# Altium integrated library Vishay Cera-Mite Ceramic Axial-Lead Capacitor.IntLib: 57 symbols
Pins are listed as number, name and electrical type; pins without a type are passive.

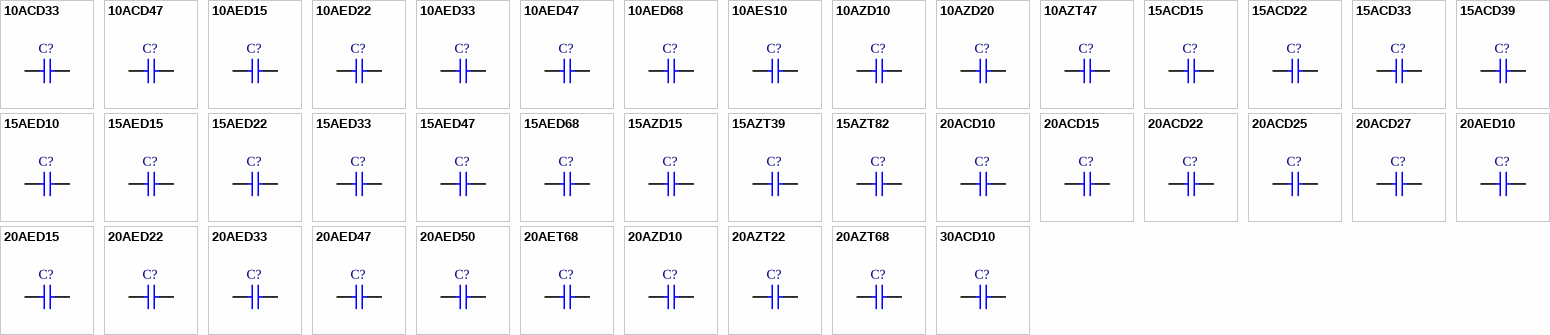
[diagram p0: symbols 10ACD33 to 30ACD10]

## 10ACD33
designator C?
High Voltage Axial Lead Capacitor: 10KV 3300pF +/-20% X7R; Value: 3.3nF; Published: 17-Dec-2003; DatasheetDocument: 29-Apr-2002; PackageReference: CAPA19.8-15X30; Publisher: Altium Limited; ComponentLink1Description: Manufacturer Link; ComponentLink1URL: http://www.vishay.com/; ComponentLink2Description: Datasheet; ComponentLink2URL: http://www.vishay.com/docs/22209/acaeaz.pdf
footprint CAPA19.8-15X30 (Capacitor, Ceramic, Thru-Hole, Axial Leads; Body 15 x 30 mm (LxDia. max) Pin Spacing 19.8 mm (typ))
simulation model CAP (Capacitor)
signal-integrity model Cap
pins: 1, 2

## 10ACD47
designator C?
High Voltage Axial Lead Capacitor: 10KV 4700pF +/-20% X7R; Value: 4.7nF; Published: 17-Dec-2003; DatasheetDocument: 29-Apr-2002; PackageReference: CAPA19.8-15X37; Publisher: Altium Limited; ComponentLink1Description: Manufacturer Link; ComponentLink1URL: http://www.vishay.com/; ComponentLink2Description: Datasheet; ComponentLink2URL: http://www.vishay.com/docs/22209/acaeaz.pdf
footprint CAPA19.8-15X37 (Capacitor, Ceramic, Thru-Hole, Axial Leads; Body 15 x 37 mm (LxDia. max) Pin Spacing 19.8 mm (typ))
simulation model CAP (Capacitor)
signal-integrity model Cap
pins: 1, 2

## 10AED15
designator C?
High Voltage Axial Lead Capacitor: 10KV 1500pF -20+80% Z5U; Value: 1.5nF; Published: 17-Dec-2003; DatasheetDocument: 29-Apr-2002; PackageReference: CAPA17.8-13X21; Publisher: Altium Limited; ComponentLink1Description: Manufacturer Link; ComponentLink1URL: http://www.vishay.com/; ComponentLink2Description: Datasheet; ComponentLink2URL: http://www.vishay.com/docs/22209/acaeaz.pdf
footprint CAPA17.8-13X21 (Capacitor, Ceramic, Thru-Hole, Axial Leads; Body 13 x 21 mm (LxDia. max) Pin Spacing 17.8 mm (typ))
simulation model CAP (Capacitor)
signal-integrity model Cap
pins: 1, 2

## 10AED22
designator C?
High Voltage Axial Lead Capacitor: 10KV 2200pF -20+80% Z5U; Value: 2.2nF; Published: 17-Dec-2003; DatasheetDocument: 29-Apr-2002; PackageReference: CAPA17.8-13X21; Publisher: Altium Limited; ComponentLink1Description: Manufacturer Link; ComponentLink1URL: http://www.vishay.com/; ComponentLink2Description: Datasheet; ComponentLink2URL: http://www.vishay.com/docs/22209/acaeaz.pdf
footprint CAPA17.8-13X21 (Capacitor, Ceramic, Thru-Hole, Axial Leads; Body 13 x 21 mm (LxDia. max) Pin Spacing 17.8 mm (typ))
simulation model CAP (Capacitor)
signal-integrity model Cap
pins: 1, 2

## 10AED33
designator C?
High Voltage Axial Lead Capacitor: 10KV 3300pF -20+80% Z5U; Value: 3.3nF; Published: 17-Dec-2003; DatasheetDocument: 29-Apr-2002; PackageReference: CAPA17.8-13X30; Publisher: Altium Limited; ComponentLink1Description: Manufacturer Link; ComponentLink1URL: http://www.vishay.com/; ComponentLink2Description: Datasheet; ComponentLink2URL: http://www.vishay.com/docs/22209/acaeaz.pdf
footprint CAPA17.8-13X30 (Capacitor, Ceramic, Thru-Hole, Axial Leads; Body 13 x 30 mm (LxDia. max) Pin Spacing 17.8 mm (typ))
simulation model CAP (Capacitor)
signal-integrity model Cap
pins: 1, 2

## 10AED47
designator C?
High Voltage Axial Lead Capacitor: 10KV 4700pF -20+80% Z5U; Value: 4.7nF; Published: 17-Dec-2003; DatasheetDocument: 29-Apr-2002; PackageReference: CAPA17.8-13X30; Publisher: Altium Limited; ComponentLink1Description: Manufacturer Link; ComponentLink1URL: http://www.vishay.com/; ComponentLink2Description: Datasheet; ComponentLink2URL: http://www.vishay.com/docs/22209/acaeaz.pdf
footprint CAPA17.8-13X30 (Capacitor, Ceramic, Thru-Hole, Axial Leads; Body 13 x 30 mm (LxDia. max) Pin Spacing 17.8 mm (typ))
simulation model CAP (Capacitor)
signal-integrity model Cap
pins: 1, 2

## 10AED68
designator C?
High Voltage Axial Lead Capacitor: 10KV 6800pF -20+80% Z5U; Value: 6.8nF; Published: 17-Dec-2003; DatasheetDocument: 29-Apr-2002; PackageReference: CAPA17.8-13X30; Publisher: Altium Limited; ComponentLink1Description: Manufacturer Link; ComponentLink1URL: http://www.vishay.com/; ComponentLink2Description: Datasheet; ComponentLink2URL: http://www.vishay.com/docs/22209/acaeaz.pdf
footprint CAPA17.8-13X30 (Capacitor, Ceramic, Thru-Hole, Axial Leads; Body 13 x 30 mm (LxDia. max) Pin Spacing 17.8 mm (typ))
simulation model CAP (Capacitor)
signal-integrity model Cap
pins: 1, 2

## 10AES10
designator C?
High Voltage Axial Lead Capacitor: 10KV 10000pF -20+80% Z5U; Value: 10nF; Published: 17-Dec-2003; DatasheetDocument: 29-Apr-2002; PackageReference: CAPA17.8-13X37; Publisher: Altium Limited; ComponentLink1Description: Manufacturer Link; ComponentLink1URL: http://www.vishay.com/; ComponentLink2Description: Datasheet; ComponentLink2URL: http://www.vishay.com/docs/22209/acaeaz.pdf
footprint CAPA17.8-13X37 (Capacitor, Ceramic, Thru-Hole, Axial Leads; Body 13 x 37 mm (LxDia. max) Pin Spacing 17.8 mm (typ))
simulation model CAP (Capacitor)
signal-integrity model Cap
pins: 1, 2

## 10AZD10
designator C?
High Voltage Axial Lead Capacitor: 10KV 1000pF +/-20% N4700; Value: 1nF; Published: 17-Dec-2003; DatasheetDocument: 29-Apr-2002; PackageReference: CAPA17.8-13X30; Publisher: Altium Limited; ComponentLink1Description: Manufacturer Link; ComponentLink1URL: http://www.vishay.com/; ComponentLink2Description: Datasheet; ComponentLink2URL: http://www.vishay.com/docs/22209/acaeaz.pdf
footprint CAPA17.8-13X30 (Capacitor, Ceramic, Thru-Hole, Axial Leads; Body 13 x 30 mm (LxDia. max) Pin Spacing 17.8 mm (typ))
simulation model CAP (Capacitor)
signal-integrity model Cap
pins: 1, 2

## 10AZD20
designator C?
High Voltage Axial Lead Capacitor: 10KV 2000pF +/-20% N4700; Value: 2nF; Published: 17-Dec-2003; DatasheetDocument: 29-Apr-2002; PackageReference: CAPA17.8-13X37; Publisher: Altium Limited; ComponentLink1Description: Manufacturer Link; ComponentLink1URL: http://www.vishay.com/; ComponentLink2Description: Datasheet; ComponentLink2URL: http://www.vishay.com/docs/22209/acaeaz.pdf
footprint CAPA17.8-13X37 (Capacitor, Ceramic, Thru-Hole, Axial Leads; Body 13 x 37 mm (LxDia. max) Pin Spacing 17.8 mm (typ))
simulation model CAP (Capacitor)
signal-integrity model Cap
pins: 1, 2

## 10AZT47
designator C?
High Voltage Axial Lead Capacitor: 10KV 470pF +/-20% N4700; Published: 17-Dec-2003; DatasheetDocument: 29-Apr-2002; PackageReference: CAPA17.8-13X21; Publisher: Altium Limited; ComponentLink1Description: Manufacturer Link; ComponentLink1URL: http://www.vishay.com/; ComponentLink2Description: Datasheet; ComponentLink2URL: http://www.vishay.com/docs/22209/acaeaz.pdf; Value: 470pF
footprint CAPA17.8-13X21 (Capacitor, Ceramic, Thru-Hole, Axial Leads; Body 13 x 21 mm (LxDia. max) Pin Spacing 17.8 mm (typ))
simulation model CAP (Capacitor)
signal-integrity model Cap
pins: 1, 2

## 15ACD15
designator C?
High Voltage Axial Lead Capacitor: 15KV 1500pF +/-20% X7R; Value: 1.5nF; Published: 17-Dec-2003; DatasheetDocument: 29-Apr-2002; PackageReference: CAPA19.8-15X30; Publisher: Altium Limited; ComponentLink1Description: Manufacturer Link; ComponentLink1URL: http://www.vishay.com/; ComponentLink2Description: Datasheet; ComponentLink2URL: http://www.vishay.com/docs/22209/acaeaz.pdf
footprint CAPA19.8-15X30 (Capacitor, Ceramic, Thru-Hole, Axial Leads; Body 15 x 30 mm (LxDia. max) Pin Spacing 19.8 mm (typ))
simulation model CAP (Capacitor)
signal-integrity model Cap
pins: 1, 2

## 15ACD22
designator C?
High Voltage Axial Lead Capacitor: 15KV 2200pF +/-20% X7R; Value: 2.2nF; Published: 17-Dec-2003; DatasheetDocument: 29-Apr-2002; PackageReference: CAPA17.8-13X30; Publisher: Altium Limited; ComponentLink1Description: Manufacturer Link; ComponentLink1URL: http://www.vishay.com/; ComponentLink2Description: Datasheet; ComponentLink2URL: http://www.vishay.com/docs/22209/acaeaz.pdf
footprint CAPA17.8-13X30 (Capacitor, Ceramic, Thru-Hole, Axial Leads; Body 13 x 30 mm (LxDia. max) Pin Spacing 17.8 mm (typ))
simulation model CAP (Capacitor)
signal-integrity model Cap
pins: 1, 2

## 15ACD33
designator C?
High Voltage Axial Lead Capacitor: 15KV 3300pF +/-20% X7R; Value: 3.3nF; Published: 17-Dec-2003; DatasheetDocument: 29-Apr-2002; PackageReference: CAPA19.8-15X37; Publisher: Altium Limited; ComponentLink1Description: Manufacturer Link; ComponentLink1URL: http://www.vishay.com/; ComponentLink2Description: Datasheet; ComponentLink2URL: http://www.vishay.com/docs/22209/acaeaz.pdf
footprint CAPA19.8-15X37 (Capacitor, Ceramic, Thru-Hole, Axial Leads; Body 15 x 37 mm (LxDia. max) Pin Spacing 19.8 mm (typ))
simulation model CAP (Capacitor)
signal-integrity model Cap
pins: 1, 2

## 15ACD39
designator C?
High Voltage Axial Lead Capacitor: 15KV 3900pF +/-20% X7R; Value: 3.9nF; Published: 17-Dec-2003; DatasheetDocument: 29-Apr-2002; PackageReference: CAPA19.8-15X37; Publisher: Altium Limited; ComponentLink1Description: Manufacturer Link; ComponentLink1URL: http://www.vishay.com/; ComponentLink2Description: Datasheet; ComponentLink2URL: http://www.vishay.com/docs/22209/acaeaz.pdf
footprint CAPA19.8-15X37 (Capacitor, Ceramic, Thru-Hole, Axial Leads; Body 15 x 37 mm (LxDia. max) Pin Spacing 19.8 mm (typ))
simulation model CAP (Capacitor)
signal-integrity model Cap
pins: 1, 2

## 15AED10
designator C?
High Voltage Axial Lead Capacitor: 15KV 1000pF -20+80% Z5U; Value: 1nF; Published: 17-Dec-2003; DatasheetDocument: 29-Apr-2002; PackageReference: CAPA17.8-13X21; Publisher: Altium Limited; ComponentLink1Description: Manufacturer Link; ComponentLink1URL: http://www.vishay.com/; ComponentLink2Description: Datasheet; ComponentLink2URL: http://www.vishay.com/docs/22209/acaeaz.pdf
footprint CAPA17.8-13X21 (Capacitor, Ceramic, Thru-Hole, Axial Leads; Body 13 x 21 mm (LxDia. max) Pin Spacing 17.8 mm (typ))
simulation model CAP (Capacitor)
signal-integrity model Cap
pins: 1, 2

## 15AED15
designator C?
High Voltage Axial Lead Capacitor: 15KV 1500pF -20+80% Z5U; Value: 1.5nF; Published: 17-Dec-2003; DatasheetDocument: 29-Apr-2002; PackageReference: CAPA17.8-13X21; Publisher: Altium Limited; ComponentLink1Description: Manufacturer Link; ComponentLink1URL: http://www.vishay.com/; ComponentLink2Description: Datasheet; ComponentLink2URL: http://www.vishay.com/docs/22209/acaeaz.pdf
footprint CAPA17.8-13X21 (Capacitor, Ceramic, Thru-Hole, Axial Leads; Body 13 x 21 mm (LxDia. max) Pin Spacing 17.8 mm (typ))
simulation model CAP (Capacitor)
signal-integrity model Cap
pins: 1, 2

## 15AED22
designator C?
High Voltage Axial Lead Capacitor: 15KV 2200pF -20+80% Z5U; Value: 2.2nF; Published: 17-Dec-2003; DatasheetDocument: 29-Apr-2002; PackageReference: CAPA17.8-13X30; Publisher: Altium Limited; ComponentLink1Description: Manufacturer Link; ComponentLink1URL: http://www.vishay.com/; ComponentLink2Description: Datasheet; ComponentLink2URL: http://www.vishay.com/docs/22209/acaeaz.pdf
footprint CAPA17.8-13X30 (Capacitor, Ceramic, Thru-Hole, Axial Leads; Body 13 x 30 mm (LxDia. max) Pin Spacing 17.8 mm (typ))
simulation model CAP (Capacitor)
signal-integrity model Cap
pins: 1, 2

## 15AED33
designator C?
High Voltage Axial Lead Capacitor: 15KV 3300pF -20+80% Z5U; Value: 3.3nF; Published: 17-Dec-2003; DatasheetDocument: 29-Apr-2002; PackageReference: CAPA17.8-13X30; Publisher: Altium Limited; ComponentLink1Description: Manufacturer Link; ComponentLink1URL: http://www.vishay.com/; ComponentLink2Description: Datasheet; ComponentLink2URL: http://www.vishay.com/docs/22209/acaeaz.pdf
footprint CAPA17.8-13X30 (Capacitor, Ceramic, Thru-Hole, Axial Leads; Body 13 x 30 mm (LxDia. max) Pin Spacing 17.8 mm (typ))
simulation model CAP (Capacitor)
signal-integrity model Cap
pins: 1, 2

## 15AED47
designator C?
High Voltage Axial Lead Capacitor: 15KV 4700pF -20+80% Z5U; Value: 4.7nF; Published: 17-Dec-2003; DatasheetDocument: 29-Apr-2002; PackageReference: CAPA17.8-13X30; Publisher: Altium Limited; ComponentLink1Description: Manufacturer Link; ComponentLink1URL: http://www.vishay.com/; ComponentLink2Description: Datasheet; ComponentLink2URL: http://www.vishay.com/docs/22209/acaeaz.pdf
footprint CAPA17.8-13X30 (Capacitor, Ceramic, Thru-Hole, Axial Leads; Body 13 x 30 mm (LxDia. max) Pin Spacing 17.8 mm (typ))
simulation model CAP (Capacitor)
signal-integrity model Cap
pins: 1, 2

## 15AED68
designator C?
High Voltage Axial Lead Capacitor: 15KV 6800pF -20+80% Z5U; Value: 6.8nF; Published: 17-Dec-2003; DatasheetDocument: 29-Apr-2002; PackageReference: CAPA17.8-13X37; Publisher: Altium Limited; ComponentLink1Description: Manufacturer Link; ComponentLink1URL: http://www.vishay.com/; ComponentLink2Description: Datasheet; ComponentLink2URL: http://www.vishay.com/docs/22209/acaeaz.pdf
footprint CAPA17.8-13X37 (Capacitor, Ceramic, Thru-Hole, Axial Leads; Body 13 x 37 mm (LxDia. max) Pin Spacing 17.8 mm (typ))
simulation model CAP (Capacitor)
signal-integrity model Cap
pins: 1, 2

## 15AZD15
designator C?
High Voltage Axial Lead Capacitor: 15KV 1500pF +/-20% N4700; Value: 1.5nF; Published: 17-Dec-2003; DatasheetDocument: 29-Apr-2002; PackageReference: CAPA17.8-13X37; Publisher: Altium Limited; ComponentLink1Description: Manufacturer Link; ComponentLink1URL: http://www.vishay.com/; ComponentLink2Description: Datasheet; ComponentLink2URL: http://www.vishay.com/docs/22209/acaeaz.pdf
footprint CAPA17.8-13X37 (Capacitor, Ceramic, Thru-Hole, Axial Leads; Body 13 x 37 mm (LxDia. max) Pin Spacing 17.8 mm (typ))
simulation model CAP (Capacitor)
signal-integrity model Cap
pins: 1, 2

## 15AZT39
designator C?
High Voltage Axial Lead Capacitor: 15KV 390pF +/-20% N4700; Published: 17-Dec-2003; DatasheetDocument: 29-Apr-2002; PackageReference: CAPA17.8-13X21; Publisher: Altium Limited; ComponentLink1Description: Manufacturer Link; ComponentLink1URL: http://www.vishay.com/; ComponentLink2Description: Datasheet; ComponentLink2URL: http://www.vishay.com/docs/22209/acaeaz.pdf; Value: 390pF
footprint CAPA17.8-13X21 (Capacitor, Ceramic, Thru-Hole, Axial Leads; Body 13 x 21 mm (LxDia. max) Pin Spacing 17.8 mm (typ))
simulation model CAP (Capacitor)
signal-integrity model Cap
pins: 1, 2

## 15AZT82
designator C?
High Voltage Axial Lead Capacitor: 15KV 820pF +/-20% N4700; Published: 17-Dec-2003; DatasheetDocument: 29-Apr-2002; PackageReference: CAPA17.8-13X30; Publisher: Altium Limited; ComponentLink1Description: Manufacturer Link; ComponentLink1URL: http://www.vishay.com/; ComponentLink2Description: Datasheet; ComponentLink2URL: http://www.vishay.com/docs/22209/acaeaz.pdf; Value: 820pF
footprint CAPA17.8-13X30 (Capacitor, Ceramic, Thru-Hole, Axial Leads; Body 13 x 30 mm (LxDia. max) Pin Spacing 17.8 mm (typ))
simulation model CAP (Capacitor)
signal-integrity model Cap
pins: 1, 2

## 20ACD10
designator C?
High Voltage Axial Lead Capacitor: 20KV 1000pF +/-20% X7R; Value: 1nF; Published: 17-Dec-2003; DatasheetDocument: 29-Apr-2002; PackageReference: CAPA24.8-20X30; Publisher: Altium Limited; ComponentLink1Description: Manufacturer Link; ComponentLink1URL: http://www.vishay.com/; ComponentLink2Description: Datasheet; ComponentLink2URL: http://www.vishay.com/docs/22209/acaeaz.pdf
footprint CAPA24.8-20X30 (Capacitor, Ceramic, Thru-Hole, Axial Leads; Body 20 x 30 mm (LxDia. max) Pin Spacing 24.8 mm (typ))
simulation model CAP (Capacitor)
signal-integrity model Cap
pins: 1, 2

## 20ACD15
designator C?
High Voltage Axial Lead Capacitor: 20KV 1500pF +/-20% X7R; Value: 1.5nF; Published: 17-Dec-2003; DatasheetDocument: 29-Apr-2002; PackageReference: CAPA24.8-20X30; Publisher: Altium Limited; ComponentLink1Description: Manufacturer Link; ComponentLink1URL: http://www.vishay.com/; ComponentLink2Description: Datasheet; ComponentLink2URL: http://www.vishay.com/docs/22209/acaeaz.pdf
footprint CAPA24.8-20X30 (Capacitor, Ceramic, Thru-Hole, Axial Leads; Body 20 x 30 mm (LxDia. max) Pin Spacing 24.8 mm (typ))
simulation model CAP (Capacitor)
signal-integrity model Cap
pins: 1, 2

## 20ACD22
designator C?
High Voltage Axial Lead Capacitor: 20KV 2200pF +/-20% X7R; Value: 2.2nF; Published: 17-Dec-2003; DatasheetDocument: 29-Apr-2002; PackageReference: CAPA24.8-20X37; Publisher: Altium Limited; ComponentLink1Description: Manufacturer Link; ComponentLink1URL: http://www.vishay.com/; ComponentLink2Description: Datasheet; ComponentLink2URL: http://www.vishay.com/docs/22209/acaeaz.pdf
footprint CAPA24.8-20X37 (Capacitor, Ceramic, Thru-Hole, Axial Leads; Body 20 x 37 mm (LxDia. max) Pin Spacing 24.8 mm (typ))
simulation model CAP (Capacitor)
signal-integrity model Cap
pins: 1, 2

## 20ACD25
designator C?
High Voltage Axial Lead Capacitor: 20KV 2500pF +/-20% X7R; Value: 2.5nF; Published: 17-Dec-2003; DatasheetDocument: 29-Apr-2002; PackageReference: CAPA24.8-20X37; Publisher: Altium Limited; ComponentLink1Description: Manufacturer Link; ComponentLink1URL: http://www.vishay.com/; ComponentLink2Description: Datasheet; ComponentLink2URL: http://www.vishay.com/docs/22209/acaeaz.pdf
footprint CAPA24.8-20X37 (Capacitor, Ceramic, Thru-Hole, Axial Leads; Body 20 x 37 mm (LxDia. max) Pin Spacing 24.8 mm (typ))
simulation model CAP (Capacitor)
signal-integrity model Cap
pins: 1, 2

## 20ACD27
designator C?
High Voltage Axial Lead Capacitor: 20KV 2700pF +/-20% X7R; Value: 2.7nF; Published: 17-Dec-2003; DatasheetDocument: 29-Apr-2002; PackageReference: CAPA24.8-20X37; Publisher: Altium Limited; ComponentLink1Description: Manufacturer Link; ComponentLink1URL: http://www.vishay.com/; ComponentLink2Description: Datasheet; ComponentLink2URL: http://www.vishay.com/docs/22209/acaeaz.pdf
footprint CAPA24.8-20X37 (Capacitor, Ceramic, Thru-Hole, Axial Leads; Body 20 x 37 mm (LxDia. max) Pin Spacing 24.8 mm (typ))
simulation model CAP (Capacitor)
signal-integrity model Cap
pins: 1, 2

## 20AED10
designator C?
High Voltage Axial Lead Capacitor: 20KV 1000pF -20+80% Z5U; Value: 1nF; Published: 17-Dec-2003; DatasheetDocument: 29-Apr-2002; PackageReference: CAPA19.8-15X21; Publisher: Altium Limited; ComponentLink1Description: Manufacturer Link; ComponentLink1URL: http://www.vishay.com/; ComponentLink2Description: Datasheet; ComponentLink2URL: http://www.vishay.com/docs/22209/acaeaz.pdf
footprint CAPA19.8-15X21 (Capacitor, Ceramic, Thru-Hole, Axial Leads; Body 15 x 21 mm (LxDia. max) Pin Spacing 19.8 mm (typ))
simulation model CAP (Capacitor)
signal-integrity model Cap
pins: 1, 2

## 20AED15
designator C?
High Voltage Axial Lead Capacitor: 20KV 1500pF -20+80% Z5U; Value: 1.5nF; Published: 17-Dec-2003; DatasheetDocument: 29-Apr-2002; PackageReference: CAPA19.8-15X21; Publisher: Altium Limited; ComponentLink1Description: Manufacturer Link; ComponentLink1URL: http://www.vishay.com/; ComponentLink2Description: Datasheet; ComponentLink2URL: http://www.vishay.com/docs/22209/acaeaz.pdf
footprint CAPA19.8-15X21 (Capacitor, Ceramic, Thru-Hole, Axial Leads; Body 15 x 21 mm (LxDia. max) Pin Spacing 19.8 mm (typ))
simulation model CAP (Capacitor)
signal-integrity model Cap
pins: 1, 2

## 20AED22
designator C?
High Voltage Axial Lead Capacitor: 20KV 2200pF -20+80% Z5U; Value: 2.2nF; Published: 17-Dec-2003; DatasheetDocument: 29-Apr-2002; PackageReference: CAPA19.8-15X30; Publisher: Altium Limited; ComponentLink1Description: Manufacturer Link; ComponentLink1URL: http://www.vishay.com/; ComponentLink2Description: Datasheet; ComponentLink2URL: http://www.vishay.com/docs/22209/acaeaz.pdf
footprint CAPA19.8-15X30 (Capacitor, Ceramic, Thru-Hole, Axial Leads; Body 15 x 30 mm (LxDia. max) Pin Spacing 19.8 mm (typ))
simulation model CAP (Capacitor)
signal-integrity model Cap
pins: 1, 2

## 20AED33
designator C?
High Voltage Axial Lead Capacitor: 20KV 3300pF -20+80% Z5U; Value: 3.3nF; Published: 17-Dec-2003; DatasheetDocument: 29-Apr-2002; PackageReference: CAPA19.8-15X30; Publisher: Altium Limited; ComponentLink1Description: Manufacturer Link; ComponentLink1URL: http://www.vishay.com/; ComponentLink2Description: Datasheet; ComponentLink2URL: http://www.vishay.com/docs/22209/acaeaz.pdf
footprint CAPA19.8-15X30 (Capacitor, Ceramic, Thru-Hole, Axial Leads; Body 15 x 30 mm (LxDia. max) Pin Spacing 19.8 mm (typ))
simulation model CAP (Capacitor)
signal-integrity model Cap
pins: 1, 2

## 20AED47
designator C?
High Voltage Axial Lead Capacitor: 20KV 4700pF -20+80% Z5U; Value: 4.7nF; Published: 17-Dec-2003; DatasheetDocument: 29-Apr-2002; PackageReference: CAPA19.8-15X37; Publisher: Altium Limited; ComponentLink1Description: Manufacturer Link; ComponentLink1URL: http://www.vishay.com/; ComponentLink2Description: Datasheet; ComponentLink2URL: http://www.vishay.com/docs/22209/acaeaz.pdf
footprint CAPA19.8-15X37 (Capacitor, Ceramic, Thru-Hole, Axial Leads; Body 15 x 37 mm (LxDia. max) Pin Spacing 19.8 mm (typ))
simulation model CAP (Capacitor)
signal-integrity model Cap
pins: 1, 2

## 20AED50
designator C?
High Voltage Axial Lead Capacitor: 20KV 5000pF -20+80% Z5U; Value: 5nF; Published: 17-Dec-2003; DatasheetDocument: 29-Apr-2002; PackageReference: CAPA19.8-15X37; Publisher: Altium Limited; ComponentLink1Description: Manufacturer Link; ComponentLink1URL: http://www.vishay.com/; ComponentLink2Description: Datasheet; ComponentLink2URL: http://www.vishay.com/docs/22209/acaeaz.pdf
footprint CAPA19.8-15X37 (Capacitor, Ceramic, Thru-Hole, Axial Leads; Body 15 x 37 mm (LxDia. max) Pin Spacing 19.8 mm (typ))
simulation model CAP (Capacitor)
signal-integrity model Cap
pins: 1, 2

## 20AET68
designator C?
High Voltage Axial Lead Capacitor: 20KV 680pF -20+80% Z5U; Published: 17-Dec-2003; DatasheetDocument: 29-Apr-2002; PackageReference: CAPA19.8-15X21; Publisher: Altium Limited; ComponentLink1Description: Manufacturer Link; ComponentLink1URL: http://www.vishay.com/; ComponentLink2Description: Datasheet; ComponentLink2URL: http://www.vishay.com/docs/22209/acaeaz.pdf; Value: 680pF
footprint CAPA19.8-15X21 (Capacitor, Ceramic, Thru-Hole, Axial Leads; Body 15 x 21 mm (LxDia. max) Pin Spacing 19.8 mm (typ))
simulation model CAP (Capacitor)
signal-integrity model Cap
pins: 1, 2

## 20AZD10
designator C?
High Voltage Axial Lead Capacitor: 20KV 1000pF +/-20% N4700; Value: 1nF; Published: 17-Dec-2003; DatasheetDocument: 29-Apr-2002; PackageReference: CAPA19.8-15X37; Publisher: Altium Limited; ComponentLink1Description: Manufacturer Link; ComponentLink1URL: http://www.vishay.com/; ComponentLink2Description: Datasheet; ComponentLink2URL: http://www.vishay.com/docs/22209/acaeaz.pdf
footprint CAPA19.8-15X37 (Capacitor, Ceramic, Thru-Hole, Axial Leads; Body 15 x 37 mm (LxDia. max) Pin Spacing 19.8 mm (typ))
simulation model CAP (Capacitor)
signal-integrity model Cap
pins: 1, 2

## 20AZT22
designator C?
High Voltage Axial Lead Capacitor: 20KV 220pF +/-20% N4700; Published: 17-Dec-2003; DatasheetDocument: 29-Apr-2002; PackageReference: CAPA19.8-15X21; Publisher: Altium Limited; ComponentLink1Description: Manufacturer Link; ComponentLink1URL: http://www.vishay.com/; ComponentLink2Description: Datasheet; ComponentLink2URL: http://www.vishay.com/docs/22209/acaeaz.pdf; Value: 220pF
footprint CAPA19.8-15X21 (Capacitor, Ceramic, Thru-Hole, Axial Leads; Body 15 x 21 mm (LxDia. max) Pin Spacing 19.8 mm (typ))
simulation model CAP (Capacitor)
signal-integrity model Cap
pins: 1, 2

## 20AZT68
designator C?
High Voltage Axial Lead Capacitor: 20KV 680pF +/-20% N4700; Published: 17-Dec-2003; DatasheetDocument: 29-Apr-2002; PackageReference: CAPA19.8-15X30; Publisher: Altium Limited; ComponentLink1Description: Manufacturer Link; ComponentLink1URL: http://www.vishay.com/; ComponentLink2Description: Datasheet; ComponentLink2URL: http://www.vishay.com/docs/22209/acaeaz.pdf; Value: 680pF
footprint CAPA19.8-15X30 (Capacitor, Ceramic, Thru-Hole, Axial Leads; Body 15 x 30 mm (LxDia. max) Pin Spacing 19.8 mm (typ))
simulation model CAP (Capacitor)
signal-integrity model Cap
pins: 1, 2

## 30ACD10
designator C?
High Voltage Axial Lead Capacitor: 30KV 1000pF +/-20% X7R; Value: 1nF; Published: 17-Dec-2003; DatasheetDocument: 29-Apr-2002; PackageReference: CAPA28.8-24X30; Publisher: Altium Limited; ComponentLink1Description: Manufacturer Link; ComponentLink1URL: http://www.vishay.com/; ComponentLink2Description: Datasheet; ComponentLink2URL: http://www.vishay.com/docs/22209/acaeaz.pdf
footprint CAPA28.8-24X30 (Capacitor, Ceramic, Thru-Hole, Axial Leads; Body 24 x 30 mm (LxDia. max) Pin Spacing 28.8 mm (typ))
simulation model CAP (Capacitor)
signal-integrity model Cap
pins: 1, 2

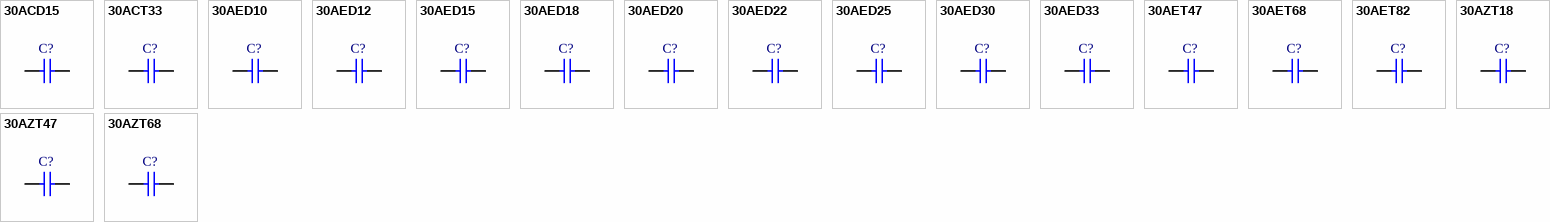
[diagram p1: symbols 30ACD15 to 30AZT68]

## 30ACD15
designator C?
High Voltage Axial Lead Capacitor: 30KV 1500pF +/-20% X7R; Value: 1.5nF; Published: 17-Dec-2003; DatasheetDocument: 29-Apr-2002; PackageReference: CAPA28.8-24X37; Publisher: Altium Limited; ComponentLink1Description: Manufacturer Link; ComponentLink1URL: http://www.vishay.com/; ComponentLink2Description: Datasheet; ComponentLink2URL: http://www.vishay.com/docs/22209/acaeaz.pdf
footprint CAPA28.8-24X37 (Capacitor, Ceramic, Thru-Hole, Axial Leads; Body 24 x 37 mm (LxDia. max) Pin Spacing 28.8 mm (typ))
simulation model CAP (Capacitor)
signal-integrity model Cap
pins: 1, 2

## 30ACT33
designator C?
High Voltage Axial Lead Capacitor: 30KV 330pF +/-20% X7R; Published: 17-Dec-2003; DatasheetDocument: 29-Apr-2002; PackageReference: CAPA28.8-24X21; Publisher: Altium Limited; ComponentLink1Description: Manufacturer Link; ComponentLink1URL: http://www.vishay.com/; ComponentLink2Description: Datasheet; ComponentLink2URL: http://www.vishay.com/docs/22209/acaeaz.pdf; Value: 330pF
footprint CAPA28.8-24X21 (Capacitor, Ceramic, Thru-Hole, Axial Leads; Body 24 x 21 mm (LxDia. max) Pin Spacing 28.8 mm (typ))
simulation model CAP (Capacitor)
signal-integrity model Cap
pins: 1, 2

## 30AED10
designator C?
High Voltage Axial Lead Capacitor: 30KV 1000pF -20+80% Z5U; Value: 1nF; Published: 17-Dec-2003; DatasheetDocument: 29-Apr-2002; PackageReference: CAPA24.8-20X30; Publisher: Altium Limited; ComponentLink1Description: Manufacturer Link; ComponentLink1URL: http://www.vishay.com/; ComponentLink2Description: Datasheet; ComponentLink2URL: http://www.vishay.com/docs/22209/acaeaz.pdf
footprint CAPA24.8-20X30 (Capacitor, Ceramic, Thru-Hole, Axial Leads; Body 20 x 30 mm (LxDia. max) Pin Spacing 24.8 mm (typ))
simulation model CAP (Capacitor)
signal-integrity model Cap
pins: 1, 2

## 30AED12
designator C?
High Voltage Axial Lead Capacitor: 30KV 1200pF -20+80% Z5U; Value: 1.2nF; Published: 17-Dec-2003; DatasheetDocument: 29-Apr-2002; PackageReference: CAPA24.8-20X30; Publisher: Altium Limited; ComponentLink1Description: Manufacturer Link; ComponentLink1URL: http://www.vishay.com/; ComponentLink2Description: Datasheet; ComponentLink2URL: http://www.vishay.com/docs/22209/acaeaz.pdf
footprint CAPA24.8-20X30 (Capacitor, Ceramic, Thru-Hole, Axial Leads; Body 20 x 30 mm (LxDia. max) Pin Spacing 24.8 mm (typ))
simulation model CAP (Capacitor)
signal-integrity model Cap
pins: 1, 2

## 30AED15
designator C?
High Voltage Axial Lead Capacitor: 30KV 1500pF -20+80% Z5U; Value: 1.5nF; Published: 17-Dec-2003; DatasheetDocument: 29-Apr-2002; PackageReference: CAPA24.8-20X30; Publisher: Altium Limited; ComponentLink1Description: Manufacturer Link; ComponentLink1URL: http://www.vishay.com/; ComponentLink2Description: Datasheet; ComponentLink2URL: http://www.vishay.com/docs/22209/acaeaz.pdf
footprint CAPA24.8-20X30 (Capacitor, Ceramic, Thru-Hole, Axial Leads; Body 20 x 30 mm (LxDia. max) Pin Spacing 24.8 mm (typ))
simulation model CAP (Capacitor)
signal-integrity model Cap
pins: 1, 2

## 30AED18
designator C?
High Voltage Axial Lead Capacitor: 30KV 1800pF -20+80% Z5U; Value: 1.8nF; Published: 17-Dec-2003; DatasheetDocument: 29-Apr-2002; PackageReference: CAPA24.8-20X37; Publisher: Altium Limited; ComponentLink1Description: Manufacturer Link; ComponentLink1URL: http://www.vishay.com/; ComponentLink2Description: Datasheet; ComponentLink2URL: http://www.vishay.com/docs/22209/acaeaz.pdf
footprint CAPA24.8-20X37 (Capacitor, Ceramic, Thru-Hole, Axial Leads; Body 20 x 37 mm (LxDia. max) Pin Spacing 24.8 mm (typ))
simulation model CAP (Capacitor)
signal-integrity model Cap
pins: 1, 2

## 30AED20
designator C?
High Voltage Axial Lead Capacitor: 30KV 2000pF -20+80% Z5U; Value: 2nF; Published: 17-Dec-2003; DatasheetDocument: 29-Apr-2002; PackageReference: CAPA24.8-20X37; Publisher: Altium Limited; ComponentLink1Description: Manufacturer Link; ComponentLink1URL: http://www.vishay.com/; ComponentLink2Description: Datasheet; ComponentLink2URL: http://www.vishay.com/docs/22209/acaeaz.pdf
footprint CAPA24.8-20X37 (Capacitor, Ceramic, Thru-Hole, Axial Leads; Body 20 x 37 mm (LxDia. max) Pin Spacing 24.8 mm (typ))
simulation model CAP (Capacitor)
signal-integrity model Cap
pins: 1, 2

## 30AED22
designator C?
High Voltage Axial Lead Capacitor: 30KV 2200pF -20+80% Z5U; Value: 2.2nF; Published: 17-Dec-2003; DatasheetDocument: 29-Apr-2002; PackageReference: CAPA24.8-20X37; Publisher: Altium Limited; ComponentLink1Description: Manufacturer Link; ComponentLink1URL: http://www.vishay.com/; ComponentLink2Description: Datasheet; ComponentLink2URL: http://www.vishay.com/docs/22209/acaeaz.pdf
footprint CAPA24.8-20X37 (Capacitor, Ceramic, Thru-Hole, Axial Leads; Body 20 x 37 mm (LxDia. max) Pin Spacing 24.8 mm (typ))
simulation model CAP (Capacitor)
signal-integrity model Cap
pins: 1, 2

## 30AED25
designator C?
High Voltage Axial Lead Capacitor: 30KV 2500pF -20+80% Z5U; Value: 2.5nF; Published: 17-Dec-2003; DatasheetDocument: 29-Apr-2002; PackageReference: CAPA24.8-20X37; Publisher: Altium Limited; ComponentLink1Description: Manufacturer Link; ComponentLink1URL: http://www.vishay.com/; ComponentLink2Description: Datasheet; ComponentLink2URL: http://www.vishay.com/docs/22209/acaeaz.pdf
footprint CAPA24.8-20X37 (Capacitor, Ceramic, Thru-Hole, Axial Leads; Body 20 x 37 mm (LxDia. max) Pin Spacing 24.8 mm (typ))
simulation model CAP (Capacitor)
signal-integrity model Cap
pins: 1, 2

## 30AED30
designator C?
High Voltage Axial Lead Capacitor: 30KV 3000pF -20+80% Z5U; Value: 3nF; Published: 17-Dec-2003; DatasheetDocument: 29-Apr-2002; PackageReference: CAPA24.8-20X37; Publisher: Altium Limited; ComponentLink1Description: Manufacturer Link; ComponentLink1URL: http://www.vishay.com/; ComponentLink2Description: Datasheet; ComponentLink2URL: http://www.vishay.com/docs/22209/acaeaz.pdf
footprint CAPA24.8-20X37 (Capacitor, Ceramic, Thru-Hole, Axial Leads; Body 20 x 37 mm (LxDia. max) Pin Spacing 24.8 mm (typ))
simulation model CAP (Capacitor)
signal-integrity model Cap
pins: 1, 2

## 30AED33
designator C?
High Voltage Axial Lead Capacitor: 30KV 3300pF -20+80% Z5U; Value: 3.3nF; Published: 17-Dec-2003; DatasheetDocument: 29-Apr-2002; PackageReference: CAPA24.8-20X37; Publisher: Altium Limited; ComponentLink1Description: Manufacturer Link; ComponentLink1URL: http://www.vishay.com/; ComponentLink2Description: Datasheet; ComponentLink2URL: http://www.vishay.com/docs/22209/acaeaz.pdf
footprint CAPA24.8-20X37 (Capacitor, Ceramic, Thru-Hole, Axial Leads; Body 20 x 37 mm (LxDia. max) Pin Spacing 24.8 mm (typ))
simulation model CAP (Capacitor)
signal-integrity model Cap
pins: 1, 2

## 30AET47
designator C?
High Voltage Axial Lead Capacitor: 30KV 470pF -20+80% Z5U; Published: 17-Dec-2003; DatasheetDocument: 29-Apr-2002; PackageReference: CAPA24.8-20X21; Publisher: Altium Limited; ComponentLink1Description: Manufacturer Link; ComponentLink1URL: http://www.vishay.com/; ComponentLink2Description: Datasheet; ComponentLink2URL: http://www.vishay.com/docs/22209/acaeaz.pdf; Value: 470pF
footprint CAPA24.8-20X21 (Capacitor, Ceramic, Thru-Hole, Axial Leads; Body 20 x 21 mm (LxDia. max) Pin Spacing 24.8 mm (typ))
simulation model CAP (Capacitor)
signal-integrity model Cap
pins: 1, 2

## 30AET68
designator C?
High Voltage Axial Lead Capacitor: 30KV 680pF -20+80% Z5U; Published: 17-Dec-2003; DatasheetDocument: 29-Apr-2002; PackageReference: CAPA24.8-20X21; Publisher: Altium Limited; ComponentLink1Description: Manufacturer Link; ComponentLink1URL: http://www.vishay.com/; ComponentLink2Description: Datasheet; ComponentLink2URL: http://www.vishay.com/docs/22209/acaeaz.pdf; Value: 680pF
footprint CAPA24.8-20X21 (Capacitor, Ceramic, Thru-Hole, Axial Leads; Body 20 x 21 mm (LxDia. max) Pin Spacing 24.8 mm (typ))
simulation model CAP (Capacitor)
signal-integrity model Cap
pins: 1, 2

## 30AET82
designator C?
High Voltage Axial Lead Capacitor: 30KV 820pF -20+80% Z5U; Published: 17-Dec-2003; DatasheetDocument: 29-Apr-2002; PackageReference: CAPA24.8-20X21; Publisher: Altium Limited; ComponentLink1Description: Manufacturer Link; ComponentLink1URL: http://www.vishay.com/; ComponentLink2Description: Datasheet; ComponentLink2URL: http://www.vishay.com/docs/22209/acaeaz.pdf; Value: 820pF
footprint CAPA24.8-20X21 (Capacitor, Ceramic, Thru-Hole, Axial Leads; Body 20 x 21 mm (LxDia. max) Pin Spacing 24.8 mm (typ))
simulation model CAP (Capacitor)
signal-integrity model Cap
pins: 1, 2

## 30AZT18
designator C?
High Voltage Axial Lead Capacitor: 30KV 180pF +/-20% N4700; Published: 17-Dec-2003; DatasheetDocument: 29-Apr-2002; PackageReference: CAPA24.8-20X21; Publisher: Altium Limited; ComponentLink1Description: Manufacturer Link; ComponentLink1URL: http://www.vishay.com/; ComponentLink2Description: Datasheet; ComponentLink2URL: http://www.vishay.com/docs/22209/acaeaz.pdf; Value: 180pF
footprint CAPA24.8-20X21 (Capacitor, Ceramic, Thru-Hole, Axial Leads; Body 20 x 21 mm (LxDia. max) Pin Spacing 24.8 mm (typ))
simulation model CAP (Capacitor)
signal-integrity model Cap
pins: 1, 2

## 30AZT47
designator C?
High Voltage Axial Lead Capacitor: 30KV 470pF +/-20% N4700; Published: 17-Dec-2003; DatasheetDocument: 29-Apr-2002; PackageReference: CAPA24.8-20X30; Publisher: Altium Limited; ComponentLink1Description: Manufacturer Link; ComponentLink1URL: http://www.vishay.com/; ComponentLink2Description: Datasheet; ComponentLink2URL: http://www.vishay.com/docs/22209/acaeaz.pdf; Value: 470pF
footprint CAPA24.8-20X30 (Capacitor, Ceramic, Thru-Hole, Axial Leads; Body 20 x 30 mm (LxDia. max) Pin Spacing 24.8 mm (typ))
simulation model CAP (Capacitor)
signal-integrity model Cap
pins: 1, 2

## 30AZT68
designator C?
High Voltage Axial Lead Capacitor: 30KV 680pF +/-20% N4700; Published: 17-Dec-2003; DatasheetDocument: 29-Apr-2002; PackageReference: CAPA24.8-20X37; Publisher: Altium Limited; ComponentLink1Description: Manufacturer Link; ComponentLink1URL: http://www.vishay.com/; ComponentLink2Description: Datasheet; ComponentLink2URL: http://www.vishay.com/docs/22209/acaeaz.pdf; Value: 680pF
footprint CAPA24.8-20X37 (Capacitor, Ceramic, Thru-Hole, Axial Leads; Body 20 x 37 mm (LxDia. max) Pin Spacing 24.8 mm (typ))
simulation model CAP (Capacitor)
signal-integrity model Cap
pins: 1, 2